# Altium schematic symbol library QUTMS_IsolatorLibrary.SchLib: 1 symbol
Pins are listed as number, name and electrical type; pins without a type are passive.

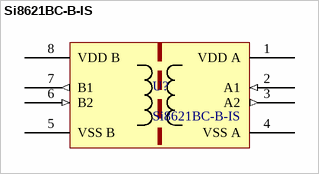
[diagram p0: symbol Si8621BC-B-IS]

## Si8621BC-B-IS
designator U?
ComponentLink1Description: Digikey; ComponentLink1URL: https://www.digikey.com.au/product-detail/en/silicon-labs/SI8621BC-B-ISR/336-4774-1-ND/8611005; ComponentLink2Description: Datasheet; ComponentLink2URL: https://www.silabs.com/documents/public/data-sheets/si861x-2x-datasheet.pdf
footprint Si8621BC-B-IS
pins: 1 VDD A, 2 A1 (in), 3 A2 (out), 4 VSS A, 5 VSS B, 6 B2 (in), 7 B1 (out), 8 VDD B